# Altium schematic symbol library Capacitors.SchLib: 104 symbols (part 2 of 2)
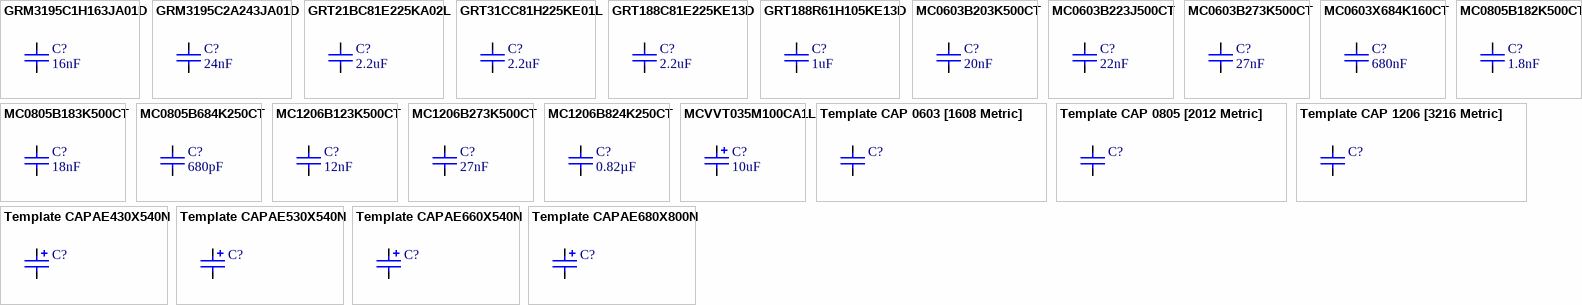
[diagram p3: symbols GRM3195C1H163JA01D to Template CAPAE680X800N]

## GRT188C81E225KE13D
designator C?, comment 2.2uF
CAP MLCC, 2.2uF, 25V, 0603 [1608 Metric], ±10%, X6S; Manufacturer: MURATA; Manufacturer Part Number: GRT188C81E225KE13D; Value: 2.2uF; Package: 0603 [1608 Metric]; Supplier 1: Farnell; Supplier Part Number 1: 2672150; ComponentLink1Description: Datasheet; ComponentLink1URL: http://www.farnell.com/datasheets/2165949.pdf; Voltage: 25V; Tolerance: ± 10%; Dielectric: X6S; Mounting: SMD; Part Type: MLCC
footprint CAPC1608N (Chip Capacitor, Body 1.6x0.8mm, Height 0.55mm, IPC Medium Density)
pins: 1, 2

## GRT188R61H105KE13D
designator C?, comment 1uF
CAP MLCC, 1uF, 50V, 0603 [1608 Metric], ±10%, X5R; Manufacturer: MURATA; Manufacturer Part Number: GRT188R61H105KE13D; Value: 1uF; Package: 0603 [1608 Metric]; Supplier 1: Farnell; Supplier Part Number 1: 3581821; ComponentLink1Description: Datasheet; ComponentLink1URL: https://4donline.ihs.com/images/VipMasterIC/IC/MURE/MURE-S-A0010859401/MURE-S-A0010860617-1.pdf?hkey=6D3A4C79FDBF58556ACFDE234799DDF0; Voltage: 50V; Tolerance: ± 10%; Dielectric: X5R; Mounting: SMD; Part Type: MLCC
footprint CAPC1608N (Chip Capacitor, Body 1.6x0.8mm, Height 0.55mm, IPC Medium Density)
pins: 1, 2

## MC0603B203K500CT
designator C?, comment 20nF
CAP MLCC, 20nF, 50V, 0603 [1608 Metric], ±10%, X7R; Manufacturer: MULTICOMP PRO; Manufacturer Part Number: MC0603B203K500CT; Value: 20nF; Package: 0603 [1608 Metric]; Supplier 1: Farnell; Supplier Part Number 1: 2627435; ComponentLink1Description: Datasheet; ComponentLink1URL: http://www.farnell.com/datasheets/2861120.pdf; Voltage: 50V; Tolerance: ± 10%; Dielectric: X7R; Mounting: SMD; Part Type: MLCC
footprint CAPC1608N (Chip Capacitor, Body 1.6x0.8mm, Height 0.55mm, IPC Medium Density)
pins: 1, 2

## MC0603B223J500CT
designator C?, comment 22nF
CAP MLCC, 22nF, 50V, 0603 [1608 metric], ±5%, X7R; Manufacturer: MULTICOMP PRO; Manufacturer Part Number: MC0603B223J500CT; Value: 22nF; Package: 0603 [1608 metric]; Supplier 1: Farnell; Supplier Part Number 1: 2627436; ComponentLink1Description: Datasheet; ComponentLink1URL: http://www.farnell.com/datasheets/2861120.pdf; Voltage: 50V; Tolerance: ± 5%; Dielectric: X7R; Mounting: SMD; Part Type: MLCC
footprint CAPC1608N (Chip Capacitor, Body 1.6x0.8mm, Height 0.55mm, IPC Medium Density)
pins: 1, 2

## MC0603B273K500CT
designator C?, comment 27nF
CAP MLCC, 27nF, 50V, 0603 [1608 Metric], ±10%, X7R; Manufacturer: MULTICOMP PRO; Manufacturer Part Number: MC0603B273K500CT; Value: 27nF; Package: 0603 [1608 Metric]; Supplier 1: Farnell; Supplier Part Number 1: 1759111; ComponentLink1Description: Datasheet; ComponentLink1URL: http://www.farnell.com/datasheets/2860632.pdf; Voltage: 50V; Tolerance: ± 10%; Dielectric: X7R; Mounting: SMD; Part Type: MLCC
footprint CAPC1608N (Chip Capacitor, Body 1.6x0.8mm, Height 0.55mm, IPC Medium Density)
pins: 1, 2

## MC0603X684K160CT
designator C?, comment 680nF
CAP MLCC, 680nF, 16V, 0603 [1608 Metric], ±10%, X5R; Manufacturer: MULTICOMP PRO; Manufacturer Part Number: MC0603X684K160CT; Value: 680nF; Package: 0603 [1608 Metric]; Supplier 1: Farnell; Supplier Part Number 1: 2665946; ComponentLink1Description: Datasheet; ComponentLink1URL: https://lt.farnell.com/multicomp/mc0603x684k160ct/cap-0-68-f-16v-10-x5r-0603-reel/dp/2665946; Voltage: 16V; Tolerance: ± 10%; Dielectric: X5R; Mounting: SMD; Part Type: MLCC
footprint CAPC1608N (Chip Capacitor, Body 1.6x0.8mm, Height 0.55mm, IPC Medium Density)
pins: 1, 2

## MC0805B182K500CT
designator C?, comment 1.8nF
CAP MLCC, 1.8nF, 25V, 0805 [2012 Metric], ±10%, X7R; Manufacturer: MULTICOMP PRO; Manufacturer Part Number: 1759233RL; Voltage: 50V; Value: 1.8nF; Package: 0805 [2012 Metric]; Supplier 1: MULTICOMP PRO; Supplier Part Number 1: 1759233RL; ComponentLink1Description: Datasheet; ComponentLink1URL: https://lt.farnell.com/multicomp/mc0805b182k500ct/cap-1800pf-50v-10-x7r-0805/dp/1759233RL?st=smd; Tolerance: ± 10%; Dielectric: X7R; Mounting: SMD; Part Type: MLCC
footprint CAPC2012N (Chip Capacitor, Body 2.0x1.25mm, IPC Medium Density)
pins: 1, 2

## MC0805B183K500CT
designator C?, comment 18nF
CAP MLCC, 18nF, 50V, 0805 [2012 Metric], ± 10%, X7R, MC Series; Manufacturer: MULTICOMP PRO; Manufacturer Part Number: MC0805B183K500CT; Value: 18nF; Package: 0805 [2012 metric]; Supplier 1: Farnell; Supplier Part Number 1: 1759251; ComponentLink1Description: Datasheet; ComponentLink1URL: http://www.farnell.com/datasheets/1870456.pdf; Voltage: 50V; Tolerance: ± 10%; Dielectric: X7R; Mounting: SMD; Part Type: MLCC
footprint CAPC2012N (Chip Capacitor, Body 2.0x1.25mm, IPC Medium Density)
pins: 1, 2

## MC0805B684K250CT
designator C?, comment 680pF
CAP MLCC, 680nF, 25V, 0805 [2012 Metric], ±10%, X7R; Manufacturer: MULTICOMP PRO; Manufacturer Part Number: MC0805B684K250CT; Value: 680pF; Package: 0805 [2012 Metric]; Supplier 1: Farnell; Supplier Part Number 1: 2627483; ComponentLink1Description: http://www.farnell.com/datasheets/2861120.pdf; ComponentLink1URL: https://lt.farnell.com/multicomp/mc0805b684k250ct/cap-0-68-f-25v-10-x7r-0805/dp/2627483?st=cap%20mlcc,%20680nf,%2025v,%200805%20[2012%20metric],%20±10%25,%20x7r; Voltage: 25V; Tolerance: ± 10%; Dielectric: X7R; Mounting: SMD; Part Type: MLCC
footprint CAPC2012N (Chip Capacitor, Body 2.0x1.25mm, IPC Medium Density)
pins: 1, 2

## MC1206B123K500CT
designator C?, comment 12nF
CAP MLCC, 12nF, 50V, 1206 [3216 Metric], ± 10%, X7R; Manufacturer: MULTICOMP PRO; Manufacturer Part Number: MC1206B123K500CT; Value: 12nF; Package: 1206 [3216 Metric]; Supplier 1: Farnell; Supplier Part Number 1: 1759351; ComponentLink1Description: Datasheet; ComponentLink1URL: https://lt.farnell.com/multicomp/mc1206b123k500ct/cap-0-012-f-50v-10-x7r-1206/dp/1759351?st=1206; Voltage: 50V; Tolerance: ± 10%; Dielectric: X7R; Mounting: SMD; Part Type: MLCC
footprint CAPC3216N (Chip Capacitor, Body 3.2x1.6mm, IPC Medium Density)
pins: 1, 2

## MC1206B273K500CT
designator C?, comment 27nF
CAP MLCC, 27nF, 50V, 1206 [3216 Metric], ±10%, X7R; Manufacturer: MULTICOMP PRO; Manufacturer Part Number: MC1206B273K500CT; Value: 27nF; Package: 1206 [3216 Metric]; Supplier 1: Farnell; Supplier Part Number 1: 1759355; ComponentLink1Description: Datasheet; ComponentLink1URL: http://www.farnell.com/datasheets/2860632.pdf; Voltage: 50V; Tolerance: ± 10%; Dielectric: X7R; Mounting: SMD; Part Type: MLCC
footprint CAPC3216N (Chip Capacitor, Body 3.2x1.6mm, IPC Medium Density)
pins: 1, 2

## MC1206B824K250CT
designator C?, comment 0.82µF
CAP MLCC, 0.82µF, 25V, 1206 [3216 Metric], ±10%, X7R; Manufacturer: MULTICOMP PRO; Manufacturer Part Number: MC1206B824K250CT; Value: 0.82µF; Package: 1206 [3216 Metric]; Supplier 1: Farnell; Supplier Part Number 1: 1759326; ComponentLink1Description: http://www.farnell.com/datasheets/2860632.pdf; ComponentLink1URL: https://lt.farnell.com/multicomp/mc1206b824k250ct/cap-0-82-f-25v-10-x7r-1206/dp/1759326?st=cap%20mlcc,%20820nf,%2025v,%201206%20[3216%20metric],%20±10%25,%20x7r; Voltage: 25V; Tolerance: ± 10%; Dielectric: X7R; Mounting: SMD; Part Type: MLCC
footprint CAPC3216N (Chip Capacitor, Body 3.2x1.6mm, IPC Medium Density)
pins: 1, 2

## MCVVT035M100CA1L
designator C?, comment 10uF
CAP Aluminium Electrolytic, 10uF, 35V, 4.3mm L x 4.3mm W x W 5.4mm H; Manufacturer: MULTICOMP PRO; Manufacturer Part Number: MCVVT035M100CA1L; Value: 10uF; Package: 4.3mm L x 4.3mm W x W 5.4mm H; Supplier 1: Farnell; Supplier Part Number 1: 2611379; ComponentLink1Description: Datasheet; ComponentLink1URL: http://www.farnell.com/datasheets/2873546.pdf; Voltage: 35V; Dielectric: Aluminium; Mounting: SMD; Part Type: Electrolytic
footprint CAPAE430X540N (Capacitor, Aluminium Electrolytric, 4.3mm L X 4.3mm W X 5.4mm H, IPC Medium Density)
pins: 1, 2

## Template CAP 0603 [1608 Metric]
designator C?
CAP MLCC, 100nF, 25V, 0603 [1608 Metric], ±10%, X7R; Package: 0603 [1608 Metric]; ComponentLink1Description: Datasheet; Mounting: SMD; Part Type: MLCC
footprint CAPC1608N (Chip Capacitor, Body 1.6x0.8mm, Height 0.55mm, IPC Medium Density)
pins: 1, 2

## Template CAP 0805 [2012 Metric]
designator C?
CAP MLCC, 100nF, 25V, 0805 [2012 Metric], ±10%, X7R; Package: 0805 [2012 Metric]; ComponentLink1Description: Datasheet; Mounting: SMD; Part Type: MLCC
footprint CAPC2012N (Chip Capacitor, Body 2.0x1.25mm, IPC Medium Density)
pins: 1, 2

## Template CAP 1206 [3216 Metric]
designator C?
CAP MLCC, 100nF, 25V, 1206 [3216 Metric], ±10%, X7R; Package: 1206 [3216 Metric]; ComponentLink1Description: Datasheet; Mounting: SMD; Part Type: MLCC
footprint CAPC3216N (Chip Capacitor, Body 3.2x1.6mm, IPC Medium Density)
pins: 1, 2

## Template CAPAE430X540N
designator C?
CAP Aluminium Electrolytic, 10uF, 35V, 4.3mm L x 4.3mm W x W 5.4mm H; Package: 4.3mm L x 4.3mm W x W 5.4mm H; ComponentLink1Description: Datasheet; Dielectric: Aluminium; Mounting: SMD; Part Type: Electrolytic
footprint CAPAE430X540N (Capacitor, Aluminium Electrolytric, 4.3mm L X 4.3mm W X 5.4mm H, IPC Medium Density)
pins: 1, 2

## Template CAPAE530X540N
designator C?
CAP Aluminium Electrolytic, 10uF, 35V, 5.3mm L X 5.3mm W X 5.4mm H; Package: 5.3mm L X 5.3mm W X 5.4mm H; ComponentLink1Description: Datasheet; Dielectric: Aluminium; Mounting: SMD; Part Type: Electrolytic
footprint CAPAE530X540N (Capacitor, Aluminium Electrolytric, 5.3mm L X 5.3mm W X 5.4mm H, IPC Medium Density)
pins: 1, 2

## Template CAPAE660X540N
designator C?
CAP Aluminium Electrolytic, 10uF, 35V, 6.6mm L X 6.6mm W X 5.4mm H; Package: 6.6mm L X 6.6mm W X 5.4mm H; ComponentLink1Description: Datasheet; Dielectric: Aluminium; Mounting: SMD; Part Type: Electrolytic
footprint CAPAE660X540N (Capacitor, Aluminium Electrolytric, 6.6mm L X 6.6mm W X 5.4mm H, IPC Medium Density)
pins: 1, 2

## Template CAPAE680X800N
designator C?
CAP Aluminium Electrolytic, 10uF, 35V, 6.8mm L X 6.8mm W X 8mm H; Package: 6.8mm L X 6.8mm W X 8mm H; ComponentLink1Description: Datasheet; Dielectric: Aluminium; Mounting: SMD; Part Type: Electrolytic
footprint CAPAE680X800N (Capacitor, Aluminium Electrolytric, 6.8mm L X 6.8mm W X 8mm H, IPC Medium Density)
pins: 1, 2